# EAGLE library part WM-1RAM (library FT74xx)
Wilson Mines RAM Module
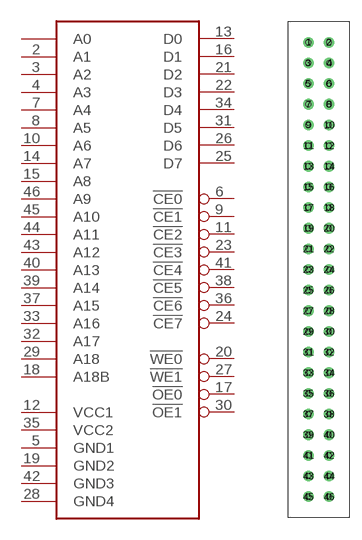
[diagram p330: symbol with the pads of DIL46-1; footprint DIL46-1]

Designator prefix -

## WM-1RAM  [DIL46-1]
1  A0  in
2  A1  in
3  A2  in
4  A3  in
5  GND1  pwr
6  !CE0  in
7  A4  in
8  A5  in
9  !CE1  in
10  A6  in
11  !CE2  in
12  VCC1  pwr
13  D0
14  A7  in
15  A8  in
16  D1
17  !OE0  in
18  A18B  in
19  GND2  pwr
20  !WE0  in
21  D2
22  D3
23  !CE3  in
24  !CE7  in
25  D7
26  D6
27  !WE1  in
28  GND4  pwr
29  A18  in
30  !OE1  in
31  D5
32  A17  in
33  A16  in
34  D4
35  VCC2  pwr
36  !CE6  in
37  A15  in
38  !CE5  in
39  A14  in
40  A13  in
41  !CE4  in
42  GND3  pwr
43  A12  in
44  A11  in
45  A10  in
46  A9  in

## Footprint DIL46-1 (pad centres in mm)
drill 0.8: 1 -3.81,-1.27; 2 -1.27,-1.27; 3 -3.81,-3.81; 4 -1.27,-3.81; 5 -3.81,-6.35; 6 -1.27,-6.35; 7 -3.81,-8.89; 8 -1.27,-8.89; 9 -3.81,-11.43; 10 -1.27,-11.43; 11 -3.81,-13.97; 12 -1.27,-13.97; 13 -3.81,-16.51; 14 -1.27,-16.51; 15 -3.81,-19.05; 16 -1.27,-19.05; 17 -3.81,-21.59; 18 -1.27,-21.59; 19 -3.81,-24.13; 20 -1.27,-24.13; 21 -3.81,-26.67; 22 -1.27,-26.67; 23 -3.81,-29.21; 24 -1.27,-29.21; 25 -3.81,-31.75; 26 -1.27,-31.75; 27 -3.81,-34.29; 28 -1.27,-34.29; 29 -3.81,-36.83; 30 -1.27,-36.83; 31 -3.81,-39.37; 32 -1.27,-39.37; 33 -3.81,-41.91; 34 -1.27,-41.91; 35 -3.81,-44.45; 36 -1.27,-44.45; 37 -3.81,-46.99; 38 -1.27,-46.99; 39 -3.81,-49.53; 40 -1.27,-49.53; 41 -3.81,-52.07; 42 -1.27,-52.07; 43 -3.81,-54.61; 44 -1.27,-54.61; 45 -3.81,-57.15; 46 -1.27,-57.15
hole 0.6 at -3.81,-1.27
hole 0.6 at -3.81,-3.81
hole 0.6 at -3.81,-6.35
hole 0.6 at -3.81,-8.89
hole 0.6 at -3.81,-11.43
hole 0.6 at -3.81,-13.97
hole 0.6 at -3.81,-16.51
hole 0.6 at -3.81,-19.05
hole 0.6 at -3.81,-21.59
hole 0.6 at -3.81,-24.13
hole 0.6 at -3.81,-26.67
hole 0.6 at -3.81,-29.21
hole 0.6 at -3.81,-31.75
hole 0.6 at -3.81,-34.29
hole 0.6 at -3.81,-36.83
hole 0.6 at -3.81,-39.37
hole 0.6 at -3.81,-41.91
hole 0.6 at -3.81,-44.45
hole 0.6 at -3.81,-46.99
hole 0.6 at -3.81,-49.53
hole 0.6 at -3.81,-52.07
hole 0.6 at -3.81,-54.61
hole 0.6 at -3.81,-57.15
hole 0.6 at -1.27,-1.27
hole 0.6 at -1.27,-3.81
hole 0.6 at -1.27,-6.35
hole 0.6 at -1.27,-8.89
hole 0.6 at -1.27,-11.43
hole 0.6 at -1.27,-13.97
hole 0.6 at -1.27,-16.51
hole 0.6 at -1.27,-19.05
hole 0.6 at -1.27,-21.59
hole 0.6 at -1.27,-24.13
hole 0.6 at -1.27,-26.67
hole 0.6 at -1.27,-29.21
hole 0.6 at -1.27,-31.75
hole 0.6 at -1.27,-34.29
hole 0.6 at -1.27,-36.83
hole 0.6 at -1.27,-39.37
hole 0.6 at -1.27,-41.91
hole 0.6 at -1.27,-44.45
hole 0.6 at -1.27,-46.99
hole 0.6 at -1.27,-49.53
hole 0.6 at -1.27,-52.07
hole 0.6 at -1.27,-54.61
hole 0.6 at -1.27,-57.15